# Altium footprint library Connectors.PcbLib: 73 footprints (part 2 of 5)
Each footprint in its own frame and in the unit in brackets; x right, y up, seen from the top. Pads: shape width x height; smd on the part's side, far side on the other; paste and mask are expansions set on the pad; w line width, h text height; cw(c..) or ccw(c..) is an arc to the next point about the centre after c.
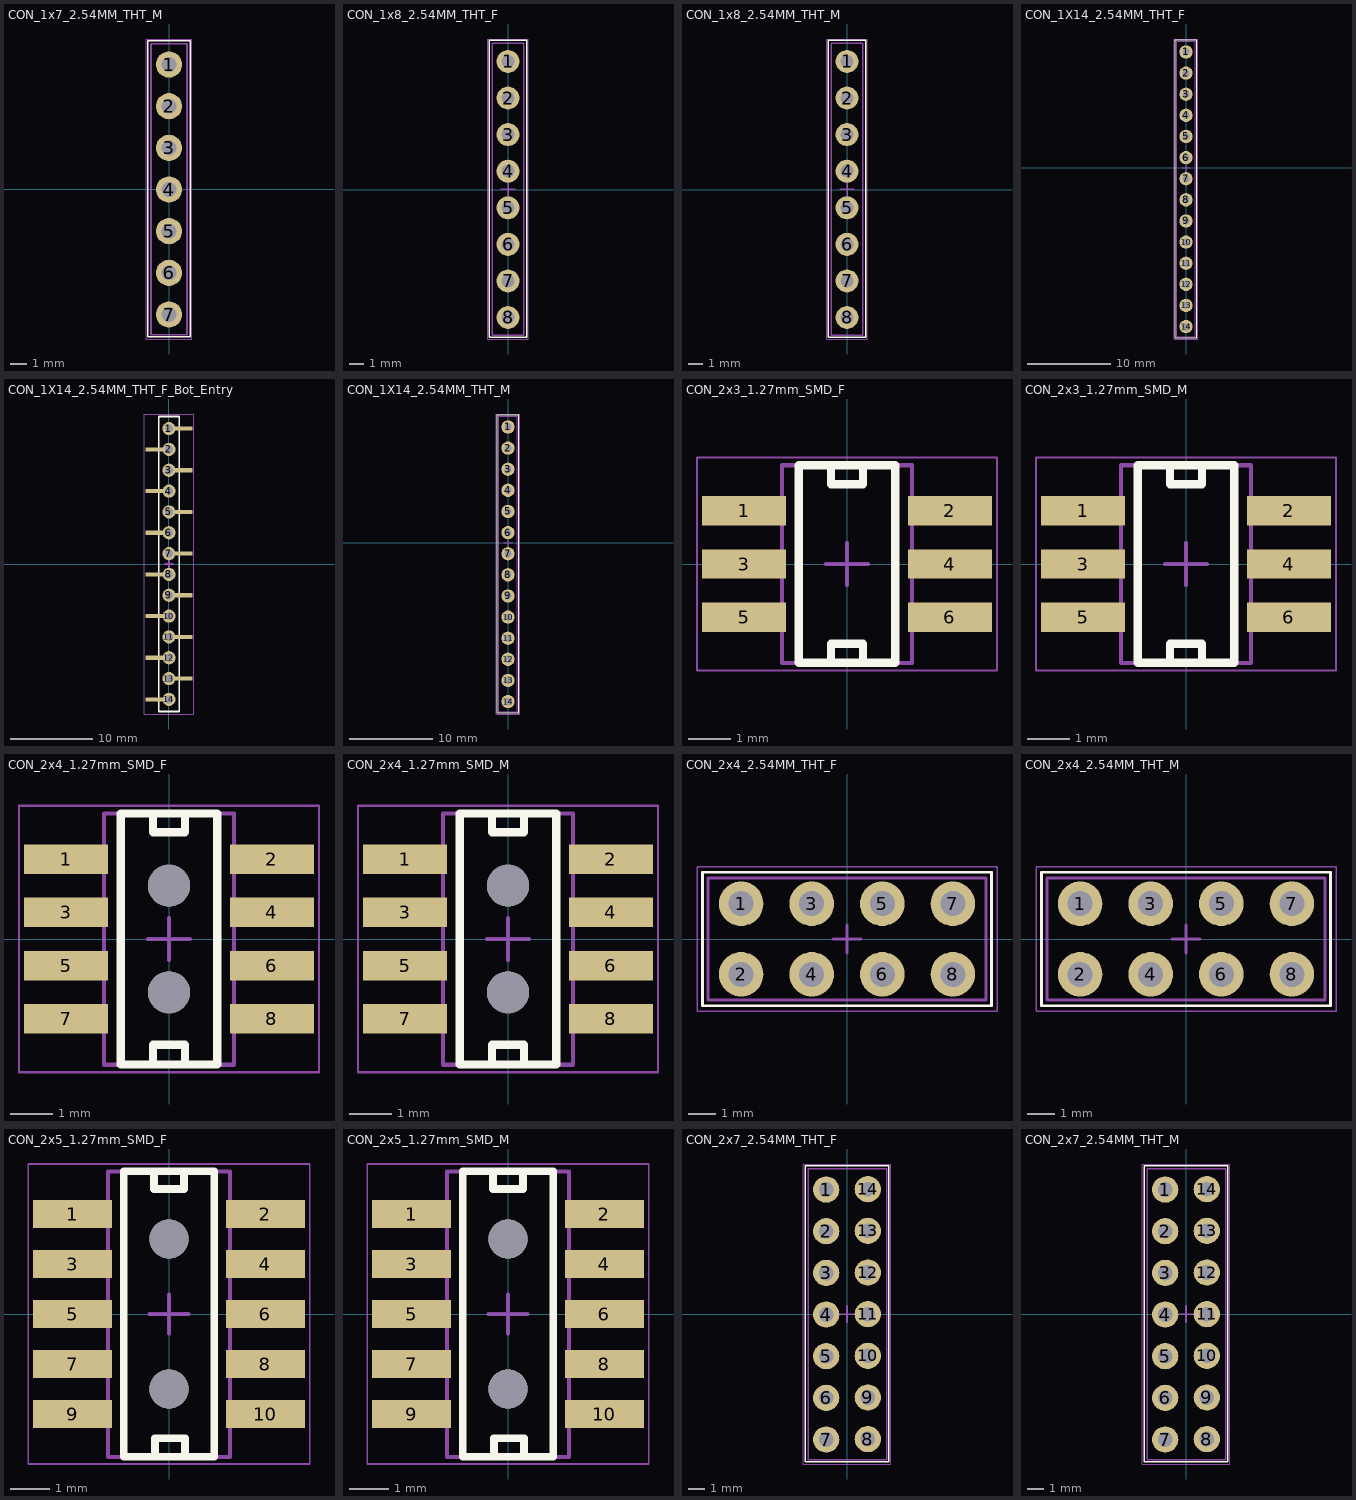
[diagram p1: the footprints below, top view; thin cyan lines are the x and y axes]

## CON_1x7_2.54MM_THT_M [mm]
height 1.4
pads (7):
  round 1.6 hole 0.9: 1(0,7.596) 2(0,5.056) 3(0,2.516) 4(0,-0.024) 5(0,-2.564) 6(0,-5.104) 7(0,-7.644)
Top Overlay:
  lines w0.1: -1.3,-9.011 1.3,-9.011 1.3,9.056 -1.3,9.056 -1.3,-9.011
Mechanical 13:
  lines w0.1: -1.1,-8.884 1.1,-8.884 1.1,8.856 -1.1,8.856 -1.1,-8.884
Mechanical 15:
  lines w0.05: -1.4,-9.138 1.4,-9.138 1.4,9.156 -1.4,9.156 -1.4,-9.138
  lines w0.1: -0.5,0.006 0.5,0.006 ; 0,-0.493 0,0.507
3D body: height 2.4, standoff 0.1, extent -1.016,-8.826 1.016,8.763
3D body: height 8.3, standoff -3, extent -0.3,7.297 0.3,7.897
3D body: height 8.3, standoff -3, extent -0.3,4.757 0.3,5.357
3D body: height 8.3, standoff -3, extent -0.3,2.217 0.3,2.817
3D body: height 8.3, standoff -3, extent -0.3,-0.323 0.3,0.277
3D body: height 8.3, standoff -3, extent -0.3,-2.863 0.3,-2.263
3D body: height 8.3, standoff -3, extent -0.3,-5.403 0.3,-4.803
3D body: height 8.3, standoff -3, extent -0.3,-7.943 0.3,-7.343

## CON_1x8_2.54MM_THT_F [mm]
height 1.4
pads (8):
  round 1.6 hole 0.9: 1(0,8.911) 2(0,6.371) 3(0,3.831) 4(0,1.291) 5(0,-1.249) 6(0,-3.789) 7(0,-6.329) 8(0,-8.869)
Top Overlay:
  lines w0.1: -1.3,-10.236 -1.3,10.371 1.3,10.371 1.3,-10.236 -1.3,-10.236
Mechanical 13:
  lines w0.1: -1.1,-10.109 -1.1,10.171 1.1,10.171 1.1,-10.109 -1.1,-10.109
Mechanical 15:
  lines w0.05: -1.4,-10.363 -1.4,10.471 1.4,10.471 1.4,-10.363 -1.4,-10.363
  lines w0.1: -0.5,0.051 0.5,0.051 ; 0,-0.449 0,0.551
3D body "step_temp.STEP": height 8.45, standoff -3.16, extent -1.25,-10.41 1.25,10.41

## CON_1x8_2.54MM_THT_M [mm]
height 1.4
pads (8):
  round 1.6 hole 0.9: 1(0,8.911) 2(0,6.371) 3(0,3.831) 4(0,1.291) 5(0,-1.249) 6(0,-3.789) 7(0,-6.329) 8(0,-8.869)
Top Overlay:
  lines w0.1: -1.3,-10.236 1.3,-10.236 1.3,10.371 -1.3,10.371 -1.3,-10.236
Mechanical 13:
  lines w0.1: -1.1,-10.109 1.1,-10.109 1.1,10.171 -1.1,10.171 -1.1,-10.109
Mechanical 15:
  lines w0.05: -1.4,-10.363 1.4,-10.363 1.4,10.471 -1.4,10.471 -1.4,-10.363
  lines w0.1: -0.5,0.051 0.5,0.051 ; 0,-0.449 0,0.551
3D body: height 8.3, standoff -3, extent -0.3,-9.169 0.3,-8.569
3D body: height 8.3, standoff -3, extent -0.3,-6.629 0.3,-6.029
3D body: height 8.3, standoff -3, extent -0.3,-4.089 0.3,-3.489
3D body: height 8.3, standoff -3, extent -0.3,-1.549 0.3,-0.949
3D body: height 8.3, standoff -3, extent -0.3,0.991 0.3,1.591
3D body: height 8.3, standoff -3, extent -0.3,3.531 0.3,4.131
3D body: height 8.3, standoff -3, extent -0.3,6.071 0.3,6.671
3D body: height 8.3, standoff -3, extent -0.3,8.611 0.3,9.211
3D body: height 2.4, standoff 0.1, extent -1.016,-10.035 1.016,10.033

## CON_1X14_2.54MM_THT_F [mm]
pads (14):
  round 1.6 hole 0.9: 1(0,13.94) 2(0,11.4) 3(0,8.86) 4(0,6.32) 5(0,3.78) 6(0,1.24) 7(0,-1.3) 8(0,-3.84) 9(0,-6.38) 10(0,-8.92) 11(0,-11.46) 12(0,-14) 13(0,-16.54) 14(0,-19.08)
Top Overlay:
  lines w0.1: -1.3,-20.447 -1.3,15.4 1.3,15.4 1.3,-20.447 -1.3,-20.447
Mechanical 13:
  lines w0.1: -1.1,-20.32 1.1,-20.32 1.1,15.2 -1.1,15.2 -1.1,-20.32
Mechanical 15:
  lines w0.05: -1.4,-20.574 -1.4,15.5 1.4,15.5 1.4,-20.574 -1.4,-20.574
  lines w0.1: -0.5,0 0.5,0 ; 0,-0.5 0,0.5
3D body "76308-107LF--3DModel-STEP-554624.STEP": height 8.51, standoff -3.43, extent -1.27,-2.54 1.27,15.24
3D body "76308-107LF--3DModel-STEP-554624.STEP": height 8.51, standoff -3.43, extent -1.27,-20.32 1.27,-2.54

## CON_1X14_2.54MM_THT_F_Bot_Entry [mm]
pads (28):
  round 1.6 hole 1: 1(0,16.51) 2(0,13.97) 3(0,11.43) 4(0,8.89) 5(0,6.35) 6(0,3.81) 7(0,1.27) 8(0,-1.27) 9(0,-3.81) 10(0,-6.35) 11(0,-8.89) 12(0,-11.43) 13(0,-13.97) 14(0,-16.51)
  rect 2.2x0.5 smd: 1(1.778,16.51) 2(-1.778,13.97) 3(1.778,11.43) 4(-1.778,8.89) 5(1.778,6.35) 6(-1.778,3.81) 7(1.778,1.27) 8(-1.778,-1.27) 9(1.778,-3.81) 10(-1.778,-6.35) 11(1.778,-8.89) 12(-1.778,-11.43) 13(1.778,-13.97) 14(-1.778,-16.51)
Top Overlay:
  lines w0.2: -1.25,-17.98 1.25,-17.98 1.25,17.98 -1.25,17.98 -1.25,-17.98
Mechanical 15:
  lines w0.15: -3.048,-18.288 3.048,-18.288 3.048,18.288 -3.048,18.288 -3.048,-18.288
  lines w0.254: -0.508,0 0.508,0 ; 0,-0.508 0,0.508
3D body "76308-107LF--3DModel-STEP-554624.STEP": height 8.51, standoff -3.43, extent -1.27,-17.78 1.27,0
3D body "76308-107LF--3DModel-STEP-554624.STEP": height 8.51, standoff -3.43, extent -1.27,0 1.27,17.78

## CON_1X14_2.54MM_THT_M [mm]
pads (14):
  round 1.6 hole 0.9: 1(0,13.94) 2(0,11.4) 3(0,8.86) 4(0,6.32) 5(0,3.78) 6(0,1.24) 7(0,-1.3) 8(0,-3.84) 9(0,-6.38) 10(0,-8.92) 11(0,-11.46) 12(0,-14) 13(0,-16.54) 14(0,-19.08)
Top Overlay:
  lines w0.1: -1.3,-20.447 1.3,-20.447 1.3,15.4 -1.3,15.4 -1.3,-20.447
Mechanical 13:
  lines w0.1: -1.1,-20.32 -1.1,15.2 1.1,15.2 1.1,-20.32 -1.1,-20.32
Mechanical 15:
  lines w0.05: -1.4,-20.574 1.4,-20.574 1.4,15.5 -1.4,15.5 -1.4,-20.574
  lines w0.1: -0.5,0 0.5,0 ; 0,-0.5 0,0.5
3D body: height 2.4, standoff 0.1, extent -1.016,-20.253 1.016,15.113
3D body: height 8.3, standoff -3, extent -0.3,13.64 0.3,14.24
3D body: height 8.3, standoff -3, extent -0.3,11.1 0.3,11.7
3D body: height 8.3, standoff -3, extent -0.3,8.56 0.3,9.16
3D body: height 8.3, standoff -3, extent -0.3,6.02 0.3,6.62
3D body: height 8.3, standoff -3, extent -0.3,3.48 0.3,4.08
3D body: height 8.3, standoff -3, extent -0.3,0.94 0.3,1.54
3D body: height 8.3, standoff -3, extent -0.3,-1.6 0.3,-1
3D body: height 8.3, standoff -3, extent -0.3,-4.14 0.3,-3.54
3D body: height 8.3, standoff -3, extent -0.3,-6.68 0.3,-6.08
3D body: height 8.3, standoff -3, extent -0.3,-9.22 0.3,-8.62
3D body: height 8.3, standoff -3, extent -0.3,-11.76 0.3,-11.16
3D body: height 8.3, standoff -3, extent -0.3,-14.3 0.3,-13.7
3D body: height 8.3, standoff -3, extent -0.3,-16.84 0.3,-16.24
3D body: height 8.3, standoff -3, extent -0.3,-19.38 0.3,-18.78

## CON_2x3_1.27mm_SMD_F [mm]
pads (6):
  rect 2x0.7 smd: 1(-2.45,1.27) 2(2.45,1.27) 3(-2.45,0) 4(2.45,0) 5(-2.45,-1.27) 6(2.45,-1.27)
Top Overlay:
  lines w0.2: -0.381,-2.355 -0.381,-1.905 0.381,-1.905 0.381,-2.355 ; -0.381,2.355 -0.381,1.905 0.381,1.905 0.381,2.355 ; -1.15,-2.355 1.15,-2.355 1.15,2.355 -1.15,2.355 -1.15,-2.355
Mechanical 13:
  lines w0.1: -1.55,-2.362 1.55,-2.362 1.55,2.355 -1.55,2.355 -1.55,-2.362
Mechanical 15:
  lines w0.05: -3.575,-2.54 3.575,-2.54 3.575,2.54 -3.575,2.54 -3.575,-2.54
  lines w0.1: -0.5,0 0.5,0 ; 0,-0.5 0,0.5
3D body "2x3_1.27mm_Female.stp": height 4.6, standoff 0, extent -1.5,-2.105 1.5,2.105

## CON_2x3_1.27mm_SMD_M [mm]
pads (6):
  rect 2x0.7 smd: 1(-2.45,1.27) 2(2.45,1.27) 3(-2.45,0) 4(2.45,0) 5(-2.45,-1.27) 6(2.45,-1.27)
Top Overlay:
  lines w0.2: -0.381,-2.355 -0.381,-1.905 0.381,-1.905 0.381,-2.355 ; -0.381,2.355 -0.381,1.905 0.381,1.905 0.381,2.355 ; -1.15,-2.355 -1.15,2.355 1.15,2.355 1.15,-2.355 -1.15,-2.355
Mechanical 13:
  lines w0.1: -1.55,-2.362 -1.55,2.355 1.55,2.355 1.55,-2.362 -1.55,-2.362
Mechanical 15:
  lines w0.05: -3.575,-2.54 -3.575,2.54 3.575,2.54 3.575,-2.54 -3.575,-2.54
  lines w0.1: -0.5,0 0.5,0 ; 0,-0.5 0,0.5
3D body "2X3_1.27mm_Male.stp": height 5, standoff -0.2, extent -1.7,-2.055 1.7,2.055

## CON_2x4_1.27mm_SMD_F [mm]
pads (10):
  rect 2x0.7 smd: 1(-2.45,1.905) 2(2.45,1.905) 3(-2.45,0.635) 4(2.45,0.635) 5(-2.45,-0.635) 6(2.45,-0.635) 7(-2.45,-1.905) 8(2.45,-1.905)
  round 1 hole 1 unplated: ""(0,-1.27) ""(0,1.27)
Top Overlay:
  lines w0.2: -0.381,-2.968 -0.381,-2.518 0.381,-2.518 0.381,-2.968 ; -0.381,2.99 -0.381,2.54 0.381,2.54 0.381,2.99 ; -1.15,-2.99 1.15,-2.99 1.15,2.99 -1.15,2.99 -1.15,-2.99
Mechanical 13:
  lines w0.1: -1.55,-2.997 -1.55,2.99 1.55,2.99 1.55,-2.997 -1.55,-2.997
Mechanical 15:
  lines w0.05: -3.575,-3.175 -3.575,3.175 3.575,3.175 3.575,-3.175 -3.575,-3.175
  lines w0.1: -0.5,0 0.5,0 ; 0,-0.5 0,0.5
3D body "2x4_1.27mm_Female.stp": height 4.6, standoff 0, extent -1.5,-2.74 1.5,2.74

## CON_2x4_1.27mm_SMD_M [mm]
pads (10):
  rect 2x0.7 smd: 1(-2.45,1.905) 2(2.45,1.905) 3(-2.45,0.635) 4(2.45,0.635) 5(-2.45,-0.635) 6(2.45,-0.635) 7(-2.45,-1.905) 8(2.45,-1.905)
  round 1 hole 1 unplated: ""(0,-1.27) ""(0,1.27)
Top Overlay:
  lines w0.2: -0.381,-2.968 -0.381,-2.518 0.381,-2.518 0.381,-2.968 ; -0.381,2.99 -0.381,2.54 0.381,2.54 0.381,2.99 ; -1.15,-2.99 1.15,-2.99 1.15,2.99 -1.15,2.99 -1.15,-2.99
Mechanical 13:
  lines w0.1: -1.55,-2.997 -1.55,2.99 1.55,2.99 1.55,-2.997 -1.55,-2.997
Mechanical 15:
  lines w0.05: -3.575,-3.175 -3.575,3.175 3.575,3.175 3.575,-3.175 -3.575,-3.175
  lines w0.1: -0.5,0 0.5,0 ; 0,-0.5 0,0.5
3D body "2X4_1.27mm_Male.stp": height 5, standoff -0.2, extent -1.7,-2.69 1.7,2.69

## CON_2x4_2.54MM_THT_F [mm]
height 1.4
pads (8):
  round 1.6 hole 0.9: 1(-3.81,1.27) 2(-3.81,-1.27) 3(-1.27,1.27) 4(-1.27,-1.27) 5(1.27,1.27) 6(1.27,-1.27) 7(3.81,1.27) 8(3.81,-1.27)
Top Overlay:
  lines w0.1: -5.2,-2.4 -5.2,2.4 5.2,2.4 5.2,-2.4 -5.2,-2.4
Mechanical 13:
  lines w0.1: -5,-2.2 -5,2.2 5,2.2 5,-2.2 -5,-2.2
Mechanical 15:
  lines w0.05: -5.4,-2.6 -5.4,2.6 5.4,2.6 5.4,-2.6 -5.4,-2.6
  lines w0.1: -0.5,0 0.5,0 ; 0,-0.5 0,0.5
3D body "step_temp.STEP": height 8.51, standoff -3.2, extent -5.334,-2.54 5.334,2.54

## CON_2x4_2.54MM_THT_M [mm]
height 1.4
pads (8):
  round 1.6 hole 0.9: 1(-3.81,1.27) 2(-3.81,-1.27) 3(-1.27,1.27) 4(-1.27,-1.27) 5(1.27,1.27) 6(1.27,-1.27) 7(3.81,1.27) 8(3.81,-1.27)
Top Overlay:
  lines w0.1: -5.2,-2.4 -5.2,2.4 5.2,2.4 5.2,-2.4 -5.2,-2.4
Mechanical 13:
  lines w0.1: -5,-2.2 -5,2.2 5,2.2 5,-2.2 -5,-2.2
Mechanical 15:
  lines w0.05: -5.4,-2.6 -5.4,2.6 5.4,2.6 5.4,-2.6 -5.4,-2.6
  lines w0.1: -0.5,0 0.5,0 ; 0,-0.5 0,0.5
3D body: height 8.3, standoff -3, extent 3.51,0.97 4.11,1.57
3D body: height 8.3, standoff -3, extent 3.51,-1.57 4.11,-0.97
3D body: height 8.3, standoff -3, extent 0.97,0.97 1.57,1.57
3D body: height 8.3, standoff -3, extent 0.97,-1.57 1.57,-0.97
3D body: height 8.3, standoff -3, extent -1.57,0.97 -0.97,1.57
3D body: height 8.3, standoff -3, extent -1.57,-1.57 -0.97,-0.97
3D body: height 8.3, standoff -3, extent -4.11,0.97 -3.51,1.57
3D body: height 8.3, standoff -3, extent -4.11,-1.57 -3.51,-0.97
3D body: height 2.4, standoff 0.1, extent -5,-2.2 5,2.2

## CON_2x5_1.27mm_SMD_F [mm]
pads (12):
  rect 2x0.7 smd: 1(-2.45,2.54) 2(2.45,2.54) 3(-2.45,1.27) 4(2.45,1.27) 5(-2.45,0) 6(2.45,0) 7(-2.45,-1.27) 8(2.45,-1.27) 9(-2.45,-2.54) 10(2.45,-2.54)
  round 1 hole 1 unplated: ""(0,-1.905) ""(0,1.905)
Top Overlay:
  lines w0.2: -0.381,3.625 -0.381,3.175 0.381,3.175 0.381,3.625 ; -0.356,-3.607 -0.356,-3.157 0.406,-3.157 0.406,-3.607 ; -1.15,-3.625 -1.15,3.625 1.15,3.625 1.15,-3.625 -1.15,-3.625
Mechanical 13:
  lines w0.1: -1.55,-3.632 1.55,-3.632 1.55,3.625 -1.55,3.625 -1.55,-3.632
Mechanical 15:
  lines w0.05: -3.575,-3.81 3.575,-3.81 3.575,3.81 -3.575,3.81 -3.575,-3.81
  lines w0.1: -0.5,0 0.5,0 ; 0,-0.5 0,0.5
3D body "2x5_1.27mm_Female.stp": height 4.6, standoff 0, extent -1.5,-3.375 1.5,3.375

## CON_2x5_1.27mm_SMD_M [mm]
pads (12):
  rect 2x0.7 smd: 1(-2.45,2.54) 2(2.45,2.54) 3(-2.45,1.27) 4(2.45,1.27) 5(-2.45,0) 6(2.45,0) 7(-2.45,-1.27) 8(2.45,-1.27) 9(-2.45,-2.54) 10(2.45,-2.54)
  round 1 hole 1 unplated: ""(0,-1.905) ""(0,1.905)
Top Overlay:
  lines w0.2: -0.381,3.625 -0.381,3.175 0.381,3.175 0.381,3.625 ; -0.356,-3.607 -0.356,-3.157 0.406,-3.157 0.406,-3.607 ; -1.15,-3.625 1.15,-3.625 1.15,3.625 -1.15,3.625 -1.15,-3.625
Mechanical 13:
  lines w0.1: -1.55,-3.632 -1.55,3.625 1.55,3.625 1.55,-3.632 -1.55,-3.632
Mechanical 15:
  lines w0.05: -3.575,-3.81 -3.575,3.81 3.575,3.81 3.575,-3.81 -3.575,-3.81
  lines w0.1: -0.5,0 0.5,0 ; 0,-0.5 0,0.5
3D body "2X5_1.27mm_Male.stp": height 5, standoff -0.2, extent -1.7,-3.325 1.7,3.325

## CON_2x7_2.54MM_THT_F [mm]
height 1.4
pads (14):
  round 1.6 hole 0.9: 1(-1.27,7.596) 2(-1.27,5.056) 3(-1.27,2.516) 4(-1.27,-0.024) 5(-1.27,-2.564) 6(-1.27,-5.104) 7(-1.27,-7.644) 8(1.27,-7.62) 9(1.27,-5.08) 10(1.27,-2.54) 11(1.27,0) 12(1.27,2.54) 13(1.27,5.08) 14(1.27,7.62)
Top Overlay:
  lines w0.1: -2.54,-9.011 2.54,-9.011 2.54,9.056 -2.54,9.056 -2.54,-9.011
Mechanical 13:
  lines w0.1: -2.37,-8.884 2.413,-8.884 2.413,8.856 -2.37,8.856 -2.37,-8.884
Mechanical 15:
  lines w0.05: -2.67,-9.138 2.667,-9.138 2.667,9.156 -2.67,9.156 -2.67,-9.138
  lines w0.1: -0.492,0 0.508,0 ; 0,-0.493 0,0.507
3D body "PPPC072LFBNRC--3DModel-STEP-269445.STEP": height 8.51, standoff -3.2, extent -2.54,-9.144 2.54,9.144

## CON_2x7_2.54MM_THT_M [mm]
height 1.4
pads (14):
  round 1.6 hole 0.9: 1(-1.27,7.596) 2(-1.27,5.056) 3(-1.27,2.516) 4(-1.27,-0.024) 5(-1.27,-2.564) 6(-1.27,-5.104) 7(-1.27,-7.644) 8(1.27,-7.62) 9(1.27,-5.08) 10(1.27,-2.54) 11(1.27,0) 12(1.27,2.54) 13(1.27,5.08) 14(1.27,7.62)
Top Overlay:
  lines w0.1: -2.54,-9.011 -2.54,9.056 2.54,9.056 2.54,-9.011 -2.54,-9.011
Mechanical 13:
  lines w0.1: -2.37,-8.884 -2.37,8.856 2.413,8.856 2.413,-8.884 -2.37,-8.884
Mechanical 15:
  lines w0.05: -2.67,-9.138 -2.67,9.156 2.667,9.156 2.667,-9.138 -2.67,-9.138
  lines w0.1: -0.492,0 0.508,0 ; 0,-0.493 0,0.507
3D body: height 2.4, standoff 0.1, extent -2.286,-8.815 2.325,8.783
3D body: height 8.3, standoff -3, extent -1.57,7.297 -0.97,7.897
3D body: height 8.3, standoff -3, extent 0.97,7.32 1.57,7.92
3D body: height 8.3, standoff -3, extent 0.97,4.78 1.57,5.38
3D body: height 8.3, standoff -3, extent -1.57,4.757 -0.97,5.357
3D body: height 8.3, standoff -3, extent -1.57,2.217 -0.97,2.817
3D body: height 8.3, standoff -3, extent 0.97,2.24 1.57,2.84
3D body: height 8.3, standoff -3, extent -1.57,-0.323 -0.97,0.277
3D body: height 8.3, standoff -3, extent 0.97,-0.3 1.57,0.3
3D body: height 8.3, standoff -3, extent -1.57,-2.863 -0.97,-2.263
3D body: height 8.3, standoff -3, extent 0.97,-2.84 1.57,-2.24
3D body: height 8.3, standoff -3, extent -1.57,-5.403 -0.97,-4.803
3D body: height 8.3, standoff -3, extent 0.97,-5.38 1.57,-4.78
3D body: height 8.3, standoff -3, extent 0.97,-7.92 1.57,-7.32
3D body: height 8.3, standoff -3, extent -1.57,-7.943 -0.97,-7.343